# Altium integrated library Infineon_Power_MOSFET.IntLib: 1448 symbols (part 14 of 47)
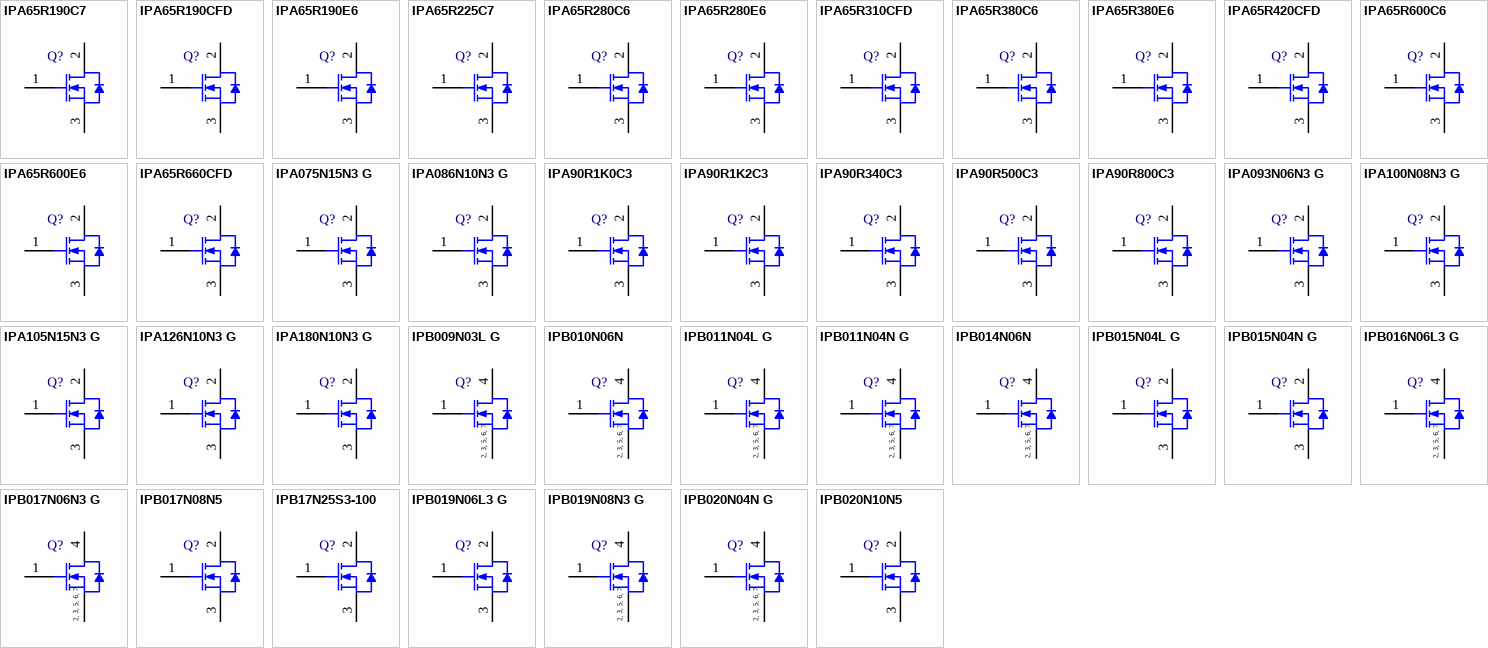
[diagram p50: symbols IPA65R190C7 to IPB020N10N5]

## IPA65R280C6
designator Q?
N-Channel CoolMOS C6 Power-Transistor, 650 V VDS, 13.8 A ID, -55 to 150 degC, PG-TO220-3-31, Tube, Green; Manufacturer: Infineon; PartNumber: IPA65R280C6; Green: TRUE; ID (max): 13.8 A; IDpuls (max): 39 A; Polarity: N; Ptot (max): 32 W; QG: 45 nC; RDS (on) (max): 280 mOhm; Rth: 3.9 K/W; RthJA (max): 80 K/W; VDS (max): 650 V; VGS(th) (max): 3.5 V; VGS(th) (min): 2.5 V; DatasheetVersion: Rev. 2.0; PackageVersion: Jan-07; PackageReference: PG-TO220-3-31; PackageDescription: 3-Pin Plastic (Green) Transistor Single Outline Package, 10.5 x 9.68 mm Body, 2.54 mm Pitch; Supplier 1: Mouser; Supplier Part Number 1: 726-IPA65R280C6; Supplier 2: Digi-Key; Supplier Part Number 2: IPA65R280C6-ND; Halogen-free: TRUE; Packing: Tube; RthJC (max): 3.9 K/W; Technology: CoolMOS C6; Mounting Technology: Through Hole; ComponentLink1Description: Manufacturer URL; ComponentLink1URL: http://www.infineon.com/; ComponentLink2Description: Datasheet; ComponentLink2URL: http://www.infineon.com/dgdl/IPA65R280C6_2_0.pdf?folderId=db3a3043156fd5730115c736bcc70ff2&fileId=db3a30432a7fedfc012a8a787d45589a; ComponentLink3Description: Package Specification; ComponentLink3URL: http://www.infineon.com/dgdl/IPA093N06N3_Rev2+0.pdf?folderId=db3a30431441fb5d01148ca9f1be0e77&fileId=db3a3043284aacd8012882bf84115438
footprint INF-PG-TO220-3-31 (FM, 3-Leads, Body 10.5x4.7mm, Pitch 2.54mm)
pins: 1 GATE, 2 DRAIN, 3 SOURCE

## IPA65R280E6
designator Q?
N-Channel CoolMOS E6 Power-Transistor, 650 V VDS, 13.8 A ID, -55 to 150 degC, PG-TO220-3-31, Tube, Green; Manufacturer: Infineon; PartNumber: IPA65R280E6; Green: TRUE; ID (max): 13.8 A; IDpuls (max): 39 A; Polarity: N; Ptot (max): 32 W; QG: 45 nC; RDS (on) (max): 280 mOhm; Rth: 3.9 K/W; RthJA (max): 80 K/W; VDS (max): 650 V; VGS(th) (max): 3.5 V; VGS(th) (min): 2.5 V; DatasheetVersion: Rev. 2.1; PackageVersion: Jan-07; PackageReference: PG-TO220-3-31; PackageDescription: 3-Pin Plastic (Green) Transistor Single Outline Package, 10.5 x 9.68 mm Body, 2.54 mm Pitch; Supplier 1: Mouser; Supplier Part Number 1: 726-IPA65R280E6; Supplier 2: Newark; Supplier Part Number 2: 47W3460; Supplier 3: Farnell; Supplier Part Number 3: 2212866; Supplier 4: Digi-Key; Supplier Part Number 4: IPA65R280E6-ND; Halogen-free: TRUE; Packing: Tube; RthJC (max): 3.9 K/W; Technology: CoolMOS E6; Mounting Technology: Through Hole; ComponentLink1Description: Manufacturer URL; ComponentLink1URL: http://www.infineon.com/; ComponentLink2Description: Datasheet; ComponentLink2URL: http://www.infineon.com/dgdl/IPA65R280E6_2_1.pdf?folderId=db3a3043163797a6011637d4e912003c&fileId=db3a304328c6bd5c0128d3bdf1ca009e; ComponentLink3Description: Package Specification; ComponentLink3URL: http://www.infineon.com/dgdl/IPA093N06N3_Rev2+0.pdf?folderId=db3a30431441fb5d01148ca9f1be0e77&fileId=db3a3043284aacd8012882bf84115438
footprint INF-PG-TO220-3-31 (FM, 3-Leads, Body 10.5x4.7mm, Pitch 2.54mm)
pins: 1 GATE, 2 DRAIN, 3 SOURCE

## IPA65R310CFD
designator Q?
N-Channel CoolMOS CFD2 Power-Transistor, 650 V VDS, 11.4 A ID, -55 to 150 degC, PG-TO220-3-31, Tube, Green; Manufacturer: Infineon; PartNumber: IPA65R310CFD; Green: TRUE; ID (max): 11.4 A; IDpuls (max): 34.4 A; Polarity: N; Ptot (max): 32 W; QG: 41 nC; RDS (on) (max): 310 mOhm; Rth: 3.9 K/W; RthJA (max): 80 K/W; VDS (max): 650 V; VGS(th) (max): 4.5 V; VGS(th) (min): 3.5 V; DatasheetVersion: Rev. 2.3; PackageVersion: Jan-07; PackageReference: PG-TO220-3-31; PackageDescription: 3-Pin Plastic (Green) Transistor Single Outline Package, 10.5 x 9.68 mm Body, 2.54 mm Pitch; Supplier 1: Mouser; Supplier Part Number 1: 726-IPA65R310CFD; Supplier 2: Digi-Key; Supplier Part Number 2: IPA65R310CFD-ND; Halogen-free: TRUE; Packing: Tube; RthJC (max): 3.9 K/W; Technology: CoolMOS CFD2; Mounting Technology: Through Hole; ComponentLink1Description: Manufacturer URL; ComponentLink1URL: http://www.infineon.com/; ComponentLink2Description: Datasheet; ComponentLink2URL: http://www.infineon.com/dgdl/DS_IPX65R310CFD__2_3.pdf?folderId=db3a3043163797a6011637d4bae7003b&fileId=db3a30432f91014f012f9caff105741c; ComponentLink3Description: Package Specification; ComponentLink3URL: http://www.infineon.com/dgdl/IPA093N06N3_Rev2+0.pdf?folderId=db3a30431441fb5d01148ca9f1be0e77&fileId=db3a3043284aacd8012882bf84115438
footprint INF-PG-TO220-3-31 (FM, 3-Leads, Body 10.5x4.7mm, Pitch 2.54mm)
pins: 1 GATE, 2 DRAIN, 3 SOURCE

## IPA65R380C6
designator Q?
N-Channel CoolMOS C6 Power-Transistor, 650 V VDS, 10.6 A ID, -55 to 150 degC, PG-TO220-3-31, Tube, Green; Manufacturer: Infineon; PartNumber: IPA65R380C6; Green: TRUE; ID (max): 10.6 A; IDpuls (max): 29 A; Polarity: N; Ptot (max): 31 W; QG: 39 nC; RDS (on) (max): 380 mOhm; Rth: 4 K/W; RthJA (max): 80 K/W; VDS (max): 650 V; VGS(th) (max): 3.5 V; VGS(th) (min): 2.5 V; DatasheetVersion: Rev. 2.0; PackageVersion: Jan-07; PackageReference: PG-TO220-3-31; PackageDescription: 3-Pin Plastic (Green) Transistor Single Outline Package, 10.5 x 9.68 mm Body, 2.54 mm Pitch; Supplier 1: Mouser; Supplier Part Number 1: 726-IPA65R380C6; Supplier 2: Digi-Key; Supplier Part Number 2: IPA65R380C6-ND; Halogen-free: TRUE; Packing: Tube; RthJC (max): 4 K/W; Technology: CoolMOS C6; Mounting Technology: Through Hole; ComponentLink1Description: Manufacturer URL; ComponentLink1URL: http://www.infineon.com/; ComponentLink2Description: Datasheet; ComponentLink2URL: http://www.infineon.com/dgdl/IPA65R380C6_2_0.pdf?folderId=db3a3043163797a6011637d4bae7003b&fileId=db3a30432ba3fa6f012bf2a58f67779f; ComponentLink3Description: Package Specification; ComponentLink3URL: http://www.infineon.com/dgdl/IPA093N06N3_Rev2+0.pdf?folderId=db3a30431441fb5d01148ca9f1be0e77&fileId=db3a3043284aacd8012882bf84115438
footprint INF-PG-TO220-3-31 (FM, 3-Leads, Body 10.5x4.7mm, Pitch 2.54mm)
pins: 1 GATE, 2 DRAIN, 3 SOURCE

## IPA65R380E6
designator Q?
N-Channel CoolMOS E6 Power-Transistor, 650 V VDS, 10.6 A ID, -55 to 150 degC, PG-TO220-3-31, Tube, Green; Manufacturer: Infineon; PartNumber: IPA65R380E6; Green: TRUE; ID (max): 10.6 A; IDpuls (max): 29 A; Polarity: N; Ptot (max): 31 W; QG: 39 nC; RDS (on) (max): 380 mOhm; Rth: 4 K/W; RthJA (max): 80 K/W; VDS (max): 650 V; VGS(th) (max): 3.5 V; VGS(th) (min): 2.5 V; DatasheetVersion: Rev. 2.0; PackageVersion: Jan-07; PackageReference: PG-TO220-3-31; PackageDescription: 3-Pin Plastic (Green) Transistor Single Outline Package, 10.5 x 9.68 mm Body, 2.54 mm Pitch; Supplier 1: Mouser; Supplier Part Number 1: 726-IPA65R380E6; Supplier 2: Newark; Supplier Part Number 2: 47W3461; Supplier 3: Farnell; Supplier Part Number 3: 2212878; Supplier 4: Digi-Key; Supplier Part Number 4: IPA65R380E6-ND; Halogen-free: TRUE; Packing: Tube; RthJC (max): 4 K/W; Technology: CoolMOS E6; Mounting Technology: Through Hole; ComponentLink1Description: Manufacturer URL; ComponentLink1URL: http://www.infineon.com/; ComponentLink2Description: Datasheet; ComponentLink2URL: http://www.infineon.com/dgdl/IPA65R380E6_2_0.pdf?folderId=db3a3043163797a6011637d4bae7003b&fileId=db3a304328c6bd5c012912f08f1c0a3f; ComponentLink3Description: Package Specification; ComponentLink3URL: http://www.infineon.com/dgdl/IPA093N06N3_Rev2+0.pdf?folderId=db3a30431441fb5d01148ca9f1be0e77&fileId=db3a3043284aacd8012882bf84115438
footprint INF-PG-TO220-3-31 (FM, 3-Leads, Body 10.5x4.7mm, Pitch 2.54mm)
pins: 1 GATE, 2 DRAIN, 3 SOURCE

## IPA65R420CFD
designator Q?
N-Channel CoolMOS Power-Transistor, 650 V VDS, 8.7 A ID, -55 to 150 degC, PG-TO220-3-31, Tube, Green; Manufacturer: Infineon; PartNumber: IPA65R420CFD; Green: TRUE; ID (max): 8.7 A; IDpuls (max): 27 A; Polarity: N; Ptot (max): 31.2 W; QG: 31.5 nC; RDS (on) (max): 420 mOhm; Rth: 4 K/W; RthJA (max): 80 K/W; VDS (max): 650 V; VGS(th) (max): 4.5 V; VGS(th) (min): 3.5 V; DatasheetVersion: Rev. 2.4; PackageVersion: Jan-07; PackageReference: PG-TO220-3-31; PackageDescription: 3-Pin Plastic (Green) Transistor Single Outline Package, 10.5 x 9.68 mm Body, 2.54 mm Pitch; Supplier 1: Mouser; Supplier Part Number 1: 726-IPA65R420CFD; Supplier 2: Digi-Key; Supplier Part Number 2: IPA65R420CFD-ND; Halogen-free: TRUE; Packing: Tube; RthJC (max): 4 K/W; Technology: CoolMOS CFD2; Mounting Technology: Through Hole; ComponentLink1Description: Manufacturer URL; ComponentLink1URL: http://www.infineon.com/; ComponentLink2Description: Datasheet; ComponentLink2URL: http://www.infineon.com/dgdl/DS_IPX65R420CFD_2_4.pdf?folderId=db3a3043156fd5730115c736bcc70ff2&fileId=db3a30432f91014f012f9c293f1a7399; ComponentLink3Description: Package Specification; ComponentLink3URL: http://www.infineon.com/dgdl/IPA093N06N3_Rev2+0.pdf?folderId=db3a30431441fb5d01148ca9f1be0e77&fileId=db3a3043284aacd8012882bf84115438
footprint INF-PG-TO220-3-31 (FM, 3-Leads, Body 10.5x4.7mm, Pitch 2.54mm)
pins: 1 GATE, 2 DRAIN, 3 SOURCE

## IPA65R600C6
designator Q?
N-Channel CoolMOS C6 Power-Transistor, 650 V VDS, 7.3 A ID, -55 to 150 degC, PG-TO220-3-31, Tube, Green; Manufacturer: Infineon; PartNumber: IPA65R600C6; Green: TRUE; ID (max): 7.3 A; IDpuls (max): 18 A; Polarity: N; Ptot (max): 28 W; QG: 23 nC; RDS (on) (max): 600 mOhm; Rth: 4.5 K/W; RthJA (max): 80 K/W; VDS (max): 650 V; VGS(th) (max): 3.5 V; VGS(th) (min): 2.5 V; DatasheetVersion: Rev. 2.0; PackageVersion: Jan-07; PackageReference: PG-TO220-3-31; PackageDescription: 3-Pin Plastic (Green) Transistor Single Outline Package, 10.5 x 9.68 mm Body, 2.54 mm Pitch; Supplier 1: Mouser; Supplier Part Number 1: 726-IPA65R600C6; Supplier 2: Digi-Key; Supplier Part Number 2: IPA65R600C6-ND; Halogen-free: TRUE; Packing: Tube; RthJC (max): 4.5 K/W; Technology: CoolMOS C6; Mounting Technology: Through Hole; ComponentLink1Description: Manufacturer URL; ComponentLink1URL: http://www.infineon.com/; ComponentLink2Description: Datasheet; ComponentLink2URL: http://www.infineon.com/dgdl/IPA65R600C6_2_0.pdf?folderId=db3a3043163797a6011637d4bae7003b&fileId=db3a30432ac1eb91012ac71e681d2c2e; ComponentLink3Description: Package Specification; ComponentLink3URL: http://www.infineon.com/dgdl/IPA093N06N3_Rev2+0.pdf?folderId=db3a30431441fb5d01148ca9f1be0e77&fileId=db3a3043284aacd8012882bf84115438
footprint INF-PG-TO220-3-31 (FM, 3-Leads, Body 10.5x4.7mm, Pitch 2.54mm)
pins: 1 GATE, 2 DRAIN, 3 SOURCE

## IPA65R600E6
designator Q?
N-Channel CoolMOS E6 Power-Transistor, 650 V VDS, 7.3 A ID, -55 to 150 degC, PG-TO220-3-31, Tube, Green; Manufacturer: Infineon; PartNumber: IPA65R600E6; Green: TRUE; ID (max): 7.3 A; IDpuls (max): 18 A; Polarity: N; Ptot (max): 28 W; QG: 23 nC; RDS (on) (max): 600 mOhm; Rth: 4.5 K/W; RthJA (max): 80 K/W; VDS (max): 650 V; VGS(th) (max): 3.5 V; VGS(th) (min): 2.5 V; DatasheetVersion: Rev. 2.0; PackageVersion: Jan-07; PackageReference: PG-TO220-3-31; PackageDescription: 3-Pin Plastic (Green) Transistor Single Outline Package, 10.5 x 9.68 mm Body, 2.54 mm Pitch; Supplier 1: Mouser; Supplier Part Number 1: 726-IPA65R600E6; Supplier 2: Digi-Key; Supplier Part Number 2: IPA65R600E6-ND; Halogen-free: TRUE; Packing: Tube; RthJC (max): 4.5 K/W; Technology: CoolMOS E6; Mounting Technology: Through Hole; ComponentLink1Description: Manufacturer URL; ComponentLink1URL: http://www.infineon.com/; ComponentLink2Description: Datasheet; ComponentLink2URL: http://www.infineon.com/dgdl/IPA65R600E6_2_0.pdf?folderId=db3a3043163797a6011637d4bae7003b&fileId=db3a304329a0f6ee0129d1468380061e; ComponentLink3Description: Package Specification; ComponentLink3URL: http://www.infineon.com/dgdl/IPA093N06N3_Rev2+0.pdf?folderId=db3a30431441fb5d01148ca9f1be0e77&fileId=db3a3043284aacd8012882bf84115438
footprint INF-PG-TO220-3-31 (FM, 3-Leads, Body 10.5x4.7mm, Pitch 2.54mm)
pins: 1 GATE, 2 DRAIN, 3 SOURCE

## IPA65R660CFD
designator Q?
N-Channel CoolMOS CFD2 Power-Transistor, 650 V VDS, 6 A ID, -55 to 150 degC, PG-TO220-3-31, Tube, Green; Manufacturer: Infineon; PartNumber: IPA65R660CFD; Green: TRUE; ID (max): 6 A; IDpuls (max): 17 A; Polarity: N; Ptot (max): 27.8 W; QG: 22 nC; RDS (on) (max): 660 mOhm; Rth: 4.5 K/W; RthJA (max): 80 K/W; VDS (max): 650 V; VGS(th) (max): 4.5 V; VGS(th) (min): 3.5 V; DatasheetVersion: Rev. 2.5; PackageVersion: Jan-07; PackageReference: PG-TO220-3-31; PackageDescription: 3-Pin Plastic (Green) Transistor Single Outline Package, 10.5 x 9.68 mm Body, 2.54 mm Pitch; Supplier 1: Mouser; Supplier Part Number 1: 726-IPA65R660CFD; Supplier 2: Digi-Key; Supplier Part Number 2: IPA65R660CFD-ND; Halogen-free: TRUE; Packing: Tube; RthJC (max): 4.5 K/W; Technology: CoolMOS CFD2; Mounting Technology: Through Hole; ComponentLink1Description: Manufacturer URL; ComponentLink1URL: http://www.infineon.com/; ComponentLink2Description: Datasheet; ComponentLink2URL: http://www.infineon.com/dgdl/DS_IPX65R660CFD_2_5.pdf?folderId=db3a3043163797a6011637d4e912003c&fileId=db3a30432e0bea21012e14dccc656df9; ComponentLink3Description: Package Specification; ComponentLink3URL: http://www.infineon.com/dgdl/IPA093N06N3_Rev2+0.pdf?folderId=db3a30431441fb5d01148ca9f1be0e77&fileId=db3a3043284aacd8012882bf84115438
footprint INF-PG-TO220-3-31 (FM, 3-Leads, Body 10.5x4.7mm, Pitch 2.54mm)
pins: 1 GATE, 2 DRAIN, 3 SOURCE

## IPA075N15N3 G
designator Q?
N-Channel OptiMOS 3 Power-Transistor, 150 V VDS, 43 A ID, -55 to 175 degC, PG-TO220-FP, Tube, Green; Manufacturer: Infineon; PartNumber: IPA075N15N3 G; Green: TRUE; ID (max): 43 A; IDpuls (max): 172 A; Polarity: N; Ptot (max): 39 W; QG: 70 nC; RDS (on) (max): 7.5 mOhm; Rth: 3.8 K/W; VDS (max): 150 V; VGS(th) (max): 4 V; VGS(th) (min): 2 V; DatasheetVersion: Rev. 2.02; PackageVersion: Jan-07; PackageReference: PG-TO220-FP; PackageDescription: 3-Pin Plastic (Green) Transistor Single Outline Package, 10.5 x 9.68 mm Body, 2.54 mm Pitch; Supplier 1: Mouser; Supplier Part Number 1: 726-IPA075N15N3G; Supplier 2: Digi-Key; Supplier Part Number 2: IPA075N15N3 G-ND; Halogen-free: TRUE; Packing: Tube; RthJC (max): 3.8 K/W; Mounting Technology: Through Hole; ComponentLink1Description: Manufacturer URL; ComponentLink1URL: http://www.infineon.com/; ComponentLink2Description: Datasheet; ComponentLink2URL: http://www.infineon.com/dgdl/IPA075N15N3+G_Rev2.2.pdf?folderId=db3a304313b8b5a60113cee8763b02d7&fileId=db3a304325afd6e0012627a00c6821de; ComponentLink3Description: Package Specification; ComponentLink3URL: http://www.infineon.com/dgdl/IPA100N08N3_Rev2.0.pdf?folderId=db3a304313b8b5a60113cee8763b02d7&fileId=db3a30431d8a6b3c011dce0add50352e
footprint INF-PG-TO220-FP (FM, 3-Leads, Body 10.5x4.7mm, Pitch 2.54mm)
pins: 1 GATE, 2 DRAIN, 3 SOURCE

## IPA086N10N3 G
designator Q?
N-Channel OptiMOS 3 Power-Transistor, 100 V VDS, 45 A ID, -55 to 175 degC, PG-TO220-FP, Tube, Green; Manufacturer: Infineon; PartNumber: IPA086N10N3 G; Green: TRUE; ID (max): 45 A; IDpuls (max): 180 A; Polarity: N; Ptot (max): 37.5 W; QG: 42 nC; RDS (on) (max): 8.6 mOhm; Rth: 4 K/W; VDS (max): 100 V; VGS(th) (max): 3.5 V; VGS(th) (min): 2 V; DatasheetVersion: Rev. 2.2; PackageVersion: Jan-07; PackageReference: PG-TO220-FP; PackageDescription: 3-Pin Plastic (Green) Transistor Single Outline Package, 10.5 x 9.68 mm Body, 2.54 mm Pitch; Supplier 1: Mouser; Supplier Part Number 1: 726-IPA086N10N3G; Supplier 2: Digi-Key; Supplier Part Number 2: IPA086N10N3 G-ND; Halogen-free: TRUE; Packing: Tube; RthJC (max): 4 K/W; Mounting Technology: Through Hole; ComponentLink1Description: Manufacturer URL; ComponentLink1URL: http://www.infineon.com/; ComponentLink2Description: Datasheet; ComponentLink2URL: http://www.infineon.com/dgdl/IPA086N10N3+G_Rev2.2.pdf?folderId=db3a304313b8b5a60113cee8763b02d7&fileId=db3a30432239cccd0122600a1e757edd; ComponentLink3Description: Package Specification; ComponentLink3URL: http://www.infineon.com/dgdl/IPA100N08N3_Rev2.0.pdf?folderId=db3a304313b8b5a60113cee8763b02d7&fileId=db3a30431d8a6b3c011dce0add50352e
footprint INF-PG-TO220-FP (FM, 3-Leads, Body 10.5x4.7mm, Pitch 2.54mm)
pins: 1 GATE, 2 DRAIN, 3 SOURCE

## IPA90R1K0C3
designator Q?
N-Channel CoolMOS Power-Transistor, 900 V VDS, 5.7 A ID, -55 to 150 degC, PG-TO220-3-31, Tube, Green; Manufacturer: Infineon; PartNumber: IPA90R1K0C3; Green: TRUE; ID (max): 5.7 A; IDpuls (max): 12 A; Polarity: N; Ptot (max): 32 W; QG: 34 nC; RDS (on) (max): 1,000 mOhm; Rth: 3.9 K/W; RthJA (max): 62 K/W; VDS (max): 900 V; VGS(th) (max): 3.5 V; VGS(th) (min): 2.5 V; DatasheetVersion: Rev. 1.0; PackageVersion: Jan-07; PackageReference: PG-TO220-3-31; PackageDescription: 3-Pin Plastic (Green) Transistor Single Outline Package, 10.5 x 9.68 mm Body, 2.54 mm Pitch; Supplier 1: Mouser; Supplier Part Number 1: 726-IPA90R1K0C3; Supplier 2: Digi-Key; Supplier Part Number 2: IPA90R1K0C3-ND; Halogen-free: TRUE; Packing: Tube; RthJC (max): 3.9 K/W; Technology: CoolMOS C3; Mounting Technology: Through Hole; ComponentLink1Description: Manufacturer URL; ComponentLink1URL: http://www.infineon.com/; ComponentLink2Description: Datasheet; ComponentLink2URL: http://www.infineon.com/dgdl/IPA90R1K0C3_1.0.pdf?folderId=db3a3043156fd5730115c736bcc70ff2&fileId=db3a30431b3e89eb011b8cbbbc490f94; ComponentLink3Description: Package Specification; ComponentLink3URL: http://www.infineon.com/dgdl/IPA093N06N3_Rev2+0.pdf?folderId=db3a30431441fb5d01148ca9f1be0e77&fileId=db3a3043284aacd8012882bf84115438
footprint INF-PG-TO220-3-31 (FM, 3-Leads, Body 10.5x4.7mm, Pitch 2.54mm)
pins: 1 GATE, 2 DRAIN, 3 SOURCE

## IPA90R1K2C3
designator Q?
N-Channel CoolMOS Power-Transistor, 900 V VDS, 5.1 A ID, -55 to 150 degC, PG-TO220-3-31, Tube, Green; Manufacturer: Infineon; PartNumber: IPA90R1K2C3; Green: TRUE; ID (max): 5.1 A; IDpuls (max): 10 A; Polarity: N; Ptot (max): 31 W; QG: 28 nC; RDS (on) (max): 1,200 mOhm; Rth: 4.1 K/W; RthJA (max): 62 K/W; VDS (max): 900 V; VGS(th) (max): 3.5 V; VGS(th) (min): 2.5 V; DatasheetVersion: Rev. 1.0; PackageVersion: Jan-07; PackageReference: PG-TO220-3-31; PackageDescription: 3-Pin Plastic (Green) Transistor Single Outline Package, 10.5 x 9.68 mm Body, 2.54 mm Pitch; Supplier 1: Mouser; Supplier Part Number 1: 726-IPA90R1K2C3; Supplier 2: Digi-Key; Supplier Part Number 2: IPA90R1K2C3-ND; Halogen-free: TRUE; Packing: Tube; RthJC (max): 4.1 K/W; Technology: CoolMOS C3; Mounting Technology: Through Hole; ComponentLink1Description: Manufacturer URL; ComponentLink1URL: http://www.infineon.com/; ComponentLink2Description: Datasheet; ComponentLink2URL: http://www.infineon.com/dgdl/IPA90R1K2C3_1.0.pdf?folderId=db3a3043163797a6011637d4bae7003b&fileId=db3a3043183a955501183c3c4d240098; ComponentLink3Description: Package Specification; ComponentLink3URL: http://www.infineon.com/dgdl/IPA093N06N3_Rev2+0.pdf?folderId=db3a30431441fb5d01148ca9f1be0e77&fileId=db3a3043284aacd8012882bf84115438
footprint INF-PG-TO220-3-31 (FM, 3-Leads, Body 10.5x4.7mm, Pitch 2.54mm)
pins: 1 GATE, 2 DRAIN, 3 SOURCE

## IPA90R340C3
designator Q?
N-Channel CoolMOS Power-Transistor, 900 V VDS, 15 A ID, -55 to 150 degC, PG-TO220-3-31, Tube, Green; Manufacturer: Infineon; PartNumber: IPA90R340C3; Green: TRUE; ID (max): 15 A; IDpuls (max): 34 A; Polarity: N; Ptot (max): 35 W; QG: 94 nC; RDS (on) (max): 340 mOhm; Rth: 3.6 K/W; RthJA (max): 62 K/W; VDS (max): 900 V; VGS(th) (max): 3.5 V; VGS(th) (min): 2.5 V; DatasheetVersion: Rev. 1.0; PackageVersion: Jan-07; PackageReference: PG-TO220-3-31; PackageDescription: 3-Pin Plastic (Green) Transistor Single Outline Package, 10.5 x 9.68 mm Body, 2.54 mm Pitch; Supplier 1: Mouser; Supplier Part Number 1: 726-IPA90R340C3; Supplier 2: Newark; Supplier Part Number 2: 33P7124; Supplier 3: Farnell; Supplier Part Number 3: 1664005; Supplier 4: Digi-Key; Supplier Part Number 4: IPA90R340C3-ND; Halogen-free: TRUE; Packing: Tube; RthJC (max): 3.6 K/W; Technology: CoolMOS C3; Mounting Technology: Through Hole; ComponentLink1Description: Manufacturer URL; ComponentLink1URL: http://www.infineon.com/; ComponentLink2Description: Datasheet; ComponentLink2URL: http://www.infineon.com/dgdl/IPA90R340C3_1.0.pdf?folderId=db3a3043156fd5730115c736bcc70ff2&fileId=db3a30431b3e89eb011b8cc90e320fa6; ComponentLink3Description: Package Specification; ComponentLink3URL: http://www.infineon.com/dgdl/IPA093N06N3_Rev2+0.pdf?folderId=db3a30431441fb5d01148ca9f1be0e77&fileId=db3a3043284aacd8012882bf84115438
footprint INF-PG-TO220-3-31 (FM, 3-Leads, Body 10.5x4.7mm, Pitch 2.54mm)
pins: 1 GATE, 2 DRAIN, 3 SOURCE

## IPA90R500C3
designator Q?
N-Channel CoolMOS Power-Transistor, 900 V VDS, 11 A ID, -55 to 150 degC, PG-TO220-3-31, Tube, Green; Manufacturer: Infineon; PartNumber: IPA90R500C3; Green: TRUE; ID (max): 11 A; IDpuls (max): 24 A; Polarity: N; Ptot (max): 34 W; QG: 68 nC; RDS (on) (max): 500 mOhm; Rth: 3.7 K/W; RthJA (max): 62 K/W; VDS (max): 900 V; VGS(th) (max): 3.5 V; VGS(th) (min): 2.5 V; DatasheetVersion: Rev. 1.0; PackageVersion: Jan-07; PackageReference: PG-TO220-3-31; PackageDescription: 3-Pin Plastic (Green) Transistor Single Outline Package, 10.5 x 9.68 mm Body, 2.54 mm Pitch; Supplier 1: Mouser; Supplier Part Number 1: 726-IPA90R500C3; Supplier 2: Digi-Key; Supplier Part Number 2: IPA90R500C3-ND; Halogen-free: TRUE; Packing: Tube; RthJC (max): 3.7 K/W; Technology: CoolMOS C3; Mounting Technology: Through Hole; ComponentLink1Description: Manufacturer URL; ComponentLink1URL: http://www.infineon.com/; ComponentLink2Description: Datasheet; ComponentLink2URL: http://www.infineon.com/dgdl/IPA90R500C3_1.0.pdf?folderId=db3a3043156fd5730115c736bcc70ff2&fileId=db3a30431b3e89eb011b8cd1d1b10fb6; ComponentLink3Description: Package Specification; ComponentLink3URL: http://www.infineon.com/dgdl/IPA093N06N3_Rev2+0.pdf?folderId=db3a30431441fb5d01148ca9f1be0e77&fileId=db3a3043284aacd8012882bf84115438
footprint INF-PG-TO220-3-31 (FM, 3-Leads, Body 10.5x4.7mm, Pitch 2.54mm)
pins: 1 GATE, 2 DRAIN, 3 SOURCE

## IPA90R800C3
designator Q?
N-Channel CoolMOS Power-Transistor, 900 V VDS, 6.9 A ID, -55 to 150 degC, PG-TO220-3-31, Tube, Green; Manufacturer: Infineon; PartNumber: IPA90R800C3; Green: TRUE; ID (max): 6.9 A; IDpuls (max): 15 A; Polarity: N; Ptot (max): 33 W; QG: 42 nC; RDS (on) (max): 800 mOhm; Rth: 3.8 K/W; RthJA (max): 62 K/W; VDS (max): 900 V; VGS(th) (max): 3.5 V; VGS(th) (min): 2.5 V; DatasheetVersion: Rev. 1.0; PackageVersion: Jan-07; PackageReference: PG-TO220-3-31; PackageDescription: 3-Pin Plastic (Green) Transistor Single Outline Package, 10.5 x 9.68 mm Body, 2.54 mm Pitch; Supplier 1: Mouser; Supplier Part Number 1: 726-IPA90R800C3; Supplier 2: Newark; Supplier Part Number 2: 33P7126; Supplier 3: Farnell; Supplier Part Number 3: 1664007; Supplier 4: Digi-Key; Supplier Part Number 4: IPA90R800C3-ND; Halogen-free: TRUE; Packing: Tube; RthJC (max): 3.8 K/W; Technology: CoolMOS C3; Mounting Technology: Through Hole; ComponentLink1Description: Manufacturer URL; ComponentLink1URL: http://www.infineon.com/; ComponentLink2Description: Datasheet; ComponentLink2URL: http://www.infineon.com/dgdl/IPA90R800C3_1.0.pdf?folderId=db3a3043156fd5730115c736bcc70ff2&fileId=db3a30431b3e89eb011b8cd8a0b90fc6; ComponentLink3Description: Package Specification; ComponentLink3URL: http://www.infineon.com/dgdl/IPA093N06N3_Rev2+0.pdf?folderId=db3a30431441fb5d01148ca9f1be0e77&fileId=db3a3043284aacd8012882bf84115438
footprint INF-PG-TO220-3-31 (FM, 3-Leads, Body 10.5x4.7mm, Pitch 2.54mm)
pins: 1 GATE, 2 DRAIN, 3 SOURCE

## IPA093N06N3 G
designator Q?
N-Channel OptiMOS 3 Power-Transistor, 60 V VDS, 43 A ID, -55 to 175 degC, PG-TO220-3-31, Tube, Green; Manufacturer: Infineon; PartNumber: IPA093N06N3 G; Green: TRUE; ID (max): 43 A; IDpuls (max): 172 A; Polarity: N; Ptot (max): 33 W; QG: 36 nC; RDS (on) (max): 9.3 mOhm; Rth: 4.6 K/W; RthJC (max): 4.6 K/W; VDS (max): 60 V; VGS(th) (max): 4 V; VGS(th) (min): 2 V; DatasheetVersion: Rev. 2.0; PackageVersion: Jan-07; PackageReference: PG-TO220-3-31; PackageDescription: 3-Pin Plastic (Green) Transistor Single Outline Package, 10.5 x 9.68 mm Body, 2.54 mm Pitch; Supplier 1: Mouser; Supplier Part Number 1: 726-IPA093N06N3G; Supplier 2: Digi-Key; Supplier Part Number 2: IPA093N06N3 G-ND; Halogen-free: TRUE; Packing: Tube; Mounting Technology: Through Hole; ComponentLink1Description: Manufacturer URL; ComponentLink1URL: http://www.infineon.com/; ComponentLink2Description: Datasheet; ComponentLink2URL: http://www.infineon.com/dgdl/IPA093N06N3_Rev2+0.pdf?folderId=db3a30431441fb5d01148ca9f1be0e77&fileId=db3a3043284aacd8012882bf84115438; ComponentLink3Description: Package Specification; ComponentLink3URL: http://www.infineon.com/dgdl/IPA093N06N3_Rev2+0.pdf?folderId=db3a30431441fb5d01148ca9f1be0e77&fileId=db3a3043284aacd8012882bf84115438
footprint INF-PG-TO220-3-31 (FM, 3-Leads, Body 10.5x4.7mm, Pitch 2.54mm)
pins: 1 GATE, 2 DRAIN, 3 SOURCE

## IPA100N08N3 G
designator Q?
N-Channel OptiMOS 3 Power-Transistor, 80 V VDS, 40 A ID, -55 to 175 degC, PG-TO220-FP, Tube, Green; Manufacturer: Infineon; PartNumber: IPA100N08N3 G; Green: TRUE; ID (max): 40 A; IDpuls (max): 160 A; Polarity: N; Ptot (max): 35 W; QG: 26 nC; RDS (on) (max): 10 mOhm; Rth: 4.3 K/W; RthJA (max): 62 K/W; VDS (max): 80 V; VGS(th) (max): 3.5 V; VGS(th) (min): 2 V; DatasheetVersion: Rev. 2.0; PackageVersion: Jan-07; PackageReference: PG-TO220-FP; PackageDescription: 3-Pin Plastic (Green) Transistor Single Outline Package, 10.5 x 9.68 mm Body, 2.54 mm Pitch; Supplier 1: Mouser; Supplier Part Number 1: 726-IPA100N08N3G; Supplier 2: Digi-Key; Supplier Part Number 2: IPA100N08N3 G-ND; Halogen-free: TRUE; Packing: Tube; RthJC (max): 4.3 K/W; Mounting Technology: Through Hole; ComponentLink1Description: Manufacturer URL; ComponentLink1URL: http://www.infineon.com/; ComponentLink2Description: Datasheet; ComponentLink2URL: http://www.infineon.com/dgdl/IPA100N08N3_Rev2.pdf?folderId=db3a304313b8b5a60113cee8763b02d7&fileId=db3a30431d8a6b3c011dce0add50352e; ComponentLink3Description: Package Specification; ComponentLink3URL: http://www.infineon.com/dgdl/IPA100N08N3_Rev2.0.pdf?folderId=db3a304313b8b5a60113cee8763b02d7&fileId=db3a30431d8a6b3c011dce0add50352e
footprint INF-PG-TO220-FP (FM, 3-Leads, Body 10.5x4.7mm, Pitch 2.54mm)
pins: 1 GATE, 2 DRAIN, 3 SOURCE

## IPA105N15N3 G
designator Q?
N-Channel OptiMOS 3 Power-Transistor, 150 V VDS, 37 A ID, -55 to 175 degC, PG-TO220-FP, Tube, Green; Manufacturer: Infineon; PartNumber: IPA105N15N3 G; Green: TRUE; ID (max): 37 A; IDpuls (max): 148 A; Polarity: N; Ptot (max): 40.5 W; QG: 41 nC; RDS (on) (max): 10.5 mOhm; Rth: 3.7 K/W; VDS (max): 150 V; VGS(th) (max): 4 V; VGS(th) (min): 2 V; DatasheetVersion: Rev. 2.1; PackageVersion: Jan-07; PackageReference: PG-TO220-FP; PackageDescription: 3-Pin Plastic (Green) Transistor Single Outline Package, 10.5 x 9.68 mm Body, 2.54 mm Pitch; Supplier 1: Mouser; Supplier Part Number 1: 726-IPA105N15N3G; Supplier 2: Digi-Key; Supplier Part Number 2: IPA105N15N3 G-ND; Halogen-free: TRUE; Packing: Tube; RthJC (max): 3.7 K/W; Mounting Technology: Through Hole; ComponentLink1Description: Manufacturer URL; ComponentLink1URL: http://www.infineon.com/; ComponentLink2Description: Datasheet; ComponentLink2URL: http://www.infineon.com/dgdl/IPA105N15N3+G_Rev2.1.pdf?folderId=db3a304313b8b5a60113cee8763b02d7&fileId=db3a304325afd6e0012627af255d21ed; ComponentLink3Description: Package Specification; ComponentLink3URL: http://www.infineon.com/dgdl/IPA100N08N3_Rev2.0.pdf?folderId=db3a304313b8b5a60113cee8763b02d7&fileId=db3a30431d8a6b3c011dce0add50352e
footprint INF-PG-TO220-FP (FM, 3-Leads, Body 10.5x4.7mm, Pitch 2.54mm)
pins: 1 GATE, 2 DRAIN, 3 SOURCE

## IPA126N10N3 G
designator Q?
N-Channel OptiMOS 3 Power-Transistor, 100 V VDS, 35 A ID, -55 to 175 degC, PG-TO220-FP, Tube, Green; Manufacturer: Infineon; PartNumber: IPA126N10N3 G; Green: TRUE; ID (max): 35 A; IDpuls (max): 140 A; Polarity: N; Ptot (max): 33 W; QG: 26 nC; RDS (on) (max): 12.6 mOhm; Rth: 4.5 K/W; VDS (max): 100 V; VGS(th) (max): 3.5 V; VGS(th) (min): 2 V; DatasheetVersion: Rev. 2.2; PackageVersion: Jan-07; PackageReference: PG-TO220-FP; PackageDescription: 3-Pin Plastic (Green) Transistor Single Outline Package, 10.5 x 9.68 mm Body, 2.54 mm Pitch; Supplier 1: Mouser; Supplier Part Number 1: 726-IPA126N10N3G; Supplier 2: Digi-Key; Supplier Part Number 2: IPA126N10N3 G-ND; Halogen-free: TRUE; Packing: Tube; RthJC (max): 4.5 K/W; Mounting Technology: Through Hole; ComponentLink1Description: Manufacturer URL; ComponentLink1URL: http://www.infineon.com/; ComponentLink2Description: Datasheet; ComponentLink2URL: http://www.infineon.com/dgdl/IPA126N10N3+G_Rev2.2.pdf?folderId=db3a304313b8b5a60113cee8763b02d7&fileId=db3a30432239cccd0122601c46c77f03; ComponentLink3Description: Package Specification; ComponentLink3URL: http://www.infineon.com/dgdl/IPA100N08N3_Rev2.0.pdf?folderId=db3a304313b8b5a60113cee8763b02d7&fileId=db3a30431d8a6b3c011dce0add50352e
footprint INF-PG-TO220-FP (FM, 3-Leads, Body 10.5x4.7mm, Pitch 2.54mm)
pins: 1 GATE, 2 DRAIN, 3 SOURCE

## IPA180N10N3 G
designator Q?
N-Channel OptiMOS 3 Power-Transistor, 100 V VDS, 28 A ID, -55 to 175 degC, PG-TO220-FP, Tube, Green; Manufacturer: Infineon; PartNumber: IPA180N10N3 G; Green: TRUE; ID (max): 28 A; IDpuls (max): 112 A; Polarity: N; Ptot (max): 30 W; QG: 19 nC; RDS (on) (max): 18 mOhm; Rth: 5 K/W; VDS (max): 100 V; VGS(th) (max): 3.5 V; VGS(th) (min): 2 V; DatasheetVersion: Rev. 2.2; PackageVersion: Jan-07; PackageReference: PG-TO220-FP; PackageDescription: 3-Pin Plastic (Green) Transistor Single Outline Package, 10.5 x 9.68 mm Body, 2.54 mm Pitch; Supplier 1: Mouser; Supplier Part Number 1: 726-IPA180N10N3G; Supplier 2: Digi-Key; Supplier Part Number 2: IPA180N10N3 G-ND; Halogen-free: TRUE; Packing: Tube; RthJC (max): 5 K/W; Mounting Technology: Through Hole; ComponentLink1Description: Manufacturer URL; ComponentLink1URL: http://www.infineon.com/; ComponentLink2Description: Datasheet; ComponentLink2URL: http://www.infineon.com/dgdl/IPA180N10N3+G_Rev2.2.pdf?folderId=db3a304313b8b5a60113cee8763b02d7&fileId=db3a30432239cccd0122602bfa617f29; ComponentLink3Description: Package Specification; ComponentLink3URL: http://www.infineon.com/dgdl/IPA100N08N3_Rev2.0.pdf?folderId=db3a304313b8b5a60113cee8763b02d7&fileId=db3a30431d8a6b3c011dce0add50352e
footprint INF-PG-TO220-FP (FM, 3-Leads, Body 10.5x4.7mm, Pitch 2.54mm)
pins: 1 GATE, 2 DRAIN, 3 SOURCE

## IPB009N03L G
designator Q?
N-Channel OptiMOS 3 Power-Transistor, 30 V VDS, 180 A ID, -55 to 175 degC, PG-TO-263-7-2, Reel, Green; Manufacturer: Infineon; PartNumber: IPB009N03L G; Green: TRUE; ID (max): 180 A; IDpuls (max): 1,260 A; Polarity: N; Ptot (max): 250 W; QG: 110 nC; RDS (on) (max): 0.95 mOhm; RDS (on) (max) (@4.5V): 1.3 mOhm; Rth: 0.6 K/W; RthJA (max): 62 K/W; VDS (max): 30 V; VGS(th) (max): 2.2 V; VGS(th) (min): 1 V; DatasheetVersion: Rev. 1.3; PackageVersion: Rev. 01, 11/2007; PackageReference: PG-TO-263-7-2; PackageDescription: 7-Pin Plastic (Green) Transistor Single Outline Package, 10.1 x 8.98 mm Body, 1.27 mm Pitch; Supplier 1: Mouser; Supplier Part Number 1: 726-IPB009N03LG; Supplier 2: Farnell; Supplier Part Number 2: 1775514; Supplier 3: Digi-Key; Supplier Part Number 3: IPB009N03L GTR-ND; Supplier 4: Digi-Key; Supplier Part Number 4: IPB009N03L GCT-ND; Supplier 5: Digi-Key; Supplier Part Number 5: IPB009N03L GDKR-ND; Halogen-free: TRUE; Packing: Reel; RthJC (max): 0.6 K/W; Mounting Technology: Surface Mount; ComponentLink1Description: Manufacturer URL; ComponentLink1URL: http://www.infineon.com/; ComponentLink2Description: Datasheet; ComponentLink2URL: http://www.infineon.com/dgdl/IPB009N03L_rev1.3.pdf?folderId=db3a3043156fd5730115c7d50620107c&fileId=db3a30431689f4420116d426b6770ca3; ComponentLink3Description: Package Specification; ComponentLink3URL: http://www.infineon.com/dgdl/BTS621L1_20030922.pdf?folderId=db3a30431400ef68011421b54e2e0564&fileId=db3a304333227b5e0133258247c72ecc&sId=db3a30433d68e984013d8539603e0d72
footprint INF-PG-TO-263-7-2_N (DPAK, 7-Leads, Body 10.1x8.98mm, Pitch 1.27mm, IPC Medium Density)
footprint INF-PG-TO-263-7-2_L (DPAK, 7-Leads, Body 10.1x8.98mm, Pitch 1.27mm, IPC High Density)
footprint INF-PG-TO-263-7-2_M (DPAK, 7-Leads, Body 10.1x8.98mm, Pitch 1.27mm, IPC Low Density)
pins: 1 GATE, 2 SOURCE, 3 SOURCE, 4 DRAIN, 5 SOURCE, 6 SOURCE, 7 SOURCE
text: 2, 3, 5, 6, 7

## IPB010N06N
designator Q?
N-Channel OptiMOS Power-Transistor, 60 V VDS, 180 A ID, -55 to 175 degC, PG-TO263-7-1, Reel, Green; Manufacturer: Infineon; PartNumber: IPB010N06N; Green: TRUE; ID (max): 180 A; IDpuls (max): 720 A; Polarity: N; Ptot (max): 300 W; QG: 208 nC; RDS (on) (max): 1 mOhm; Rth: 0.5 K/W; RthJA (max): 62 K/W; VDS (max): 60 V; VGS(th) (max): 4 V; VGS(th) (min): 2.1 V; DatasheetVersion: Rev. 2.1; PackageVersion: May-07; PackageReference: PG-TO263-7-1; PackageDescription: 7-Pin Plastic (Green) Transistor Single Outline Package, 9.25 x 10 mm Body, 1.27 mm Pitch; Supplier 1: Newark; Supplier Part Number 1: 79X1431; Supplier 2: Farnell; Supplier Part Number 2: 2432724; Supplier 3: Digi-Key; Supplier Part Number 3: IPB010N06NTR-ND; Supplier 4: Digi-Key; Supplier Part Number 4: IPB010N06NCT-ND; Supplier 5: Digi-Key; Supplier Part Number 5: IPB010N06NDKR-ND; Halogen-free: TRUE; Packing: Reel; RthJC (max): 0.5 K/W; Mounting Technology: Surface Mount; ComponentLink1Description: Manufacturer URL; ComponentLink1URL: http://www.infineon.com/; ComponentLink2Description: Datasheet; ComponentLink2URL: http://www.infineon.com/dgdl/IPB010N06N_Rev2.1.pdf?folderId=db3a304313b8b5a60113cee8763b02d7&fileId=db3a3043353fdc1601355341f17a485f; ComponentLink3Description: Package Specification; ComponentLink3URL: http://www.infineon.com/dgdl/TLE5205-2_DS_11%5B1%5D.pdf?folderId=db3a30431b3e89eb011bb632994f065b&fileId=db3a30431f848401011fc747c7a0797f&sId=db3a30433d68e984013d7d43135b5b6a
footprint INF-PG-TO263-7-1_N (DPAK, 8-Leads, Body 10x9.25mm, Pitch 1.27mm, IPC Medium Density)
footprint INF-PG-TO263-7-1_L (DPAK, 8-Leads, Body 10x9.25mm, Pitch 1.27mm, IPC High Density)
footprint INF-PG-TO263-7-1_M (DPAK, 8-Leads, Body 10x9.25mm, Pitch 1.27mm, IPC Low Density)
pins: 1 GATE, 2 SOURCE, 3 SOURCE, 4 DRAIN, 5 SOURCE, 6 SOURCE, 7 SOURCE
text: 2, 3, 5, 6, 7

## IPB011N04L G
designator Q?
N-Channel OptiMOS 3 Power-Transistor, 40 V VDS, 180 A ID, -55 to 175 degC, PG-TO-263-7-2, Reel, Green; Manufacturer: Infineon; PartNumber: IPB011N04L G; Green: TRUE; ID (max): 180 A; IDpuls (max): 1260 A; Polarity: N; Ptot (max): 250 W; QG: 260 nC; RDS (on) (max): 1.1 mOhm; RDS (on) (max) (@4.5V): 1.4 mOhm; Rth: 0.6 K/W; RthJA (max): 62 K/W; VDS (max): 40 V; VGS(th) (max): 2 V; VGS(th) (min): 1.2 V; DatasheetVersion: Rev. 1.3; PackageVersion: Rev. 01, 11/2007; PackageReference: PG-TO-263-7-2; PackageDescription: 7-Pin Plastic (Green) Transistor Single Outline Package, 10.1 x 8.98 mm Body, 1.27 mm Pitch; Supplier 1: Mouser; Supplier Part Number 1: 726-IPB011N04LG; Supplier 2: Digi-Key; Supplier Part Number 2: IPB011N04L GTR-ND; Supplier 3: Digi-Key; Supplier Part Number 3: IPB011N04L GCT-ND; Supplier 4: Digi-Key; Supplier Part Number 4: IPB011N04L GDKR-ND; Halogen-free: TRUE; Packing: Reel; RthJC (max): 0.6 K/W; Mounting Technology: Surface Mount; ComponentLink1Description: Manufacturer URL; ComponentLink1URL: http://www.infineon.com/; ComponentLink2Description: Datasheet; ComponentLink2URL: http://www.infineon.com/dgdl/IPB011N04L_rev1.3.pdf?folderId=db3a3043156fd5730115c7d50620107c&fileId=db3a30431689f4420116c451f4e20825; ComponentLink3Description: Package Specification; ComponentLink3URL: http://www.infineon.com/dgdl/BTS621L1_20030922.pdf?folderId=db3a30431400ef68011421b54e2e0564&fileId=db3a304333227b5e0133258247c72ecc&sId=db3a30433d68e984013d8539603e0d72
footprint INF-PG-TO-263-7-2_N (DPAK, 7-Leads, Body 10.1x8.98mm, Pitch 1.27mm, IPC Medium Density)
footprint INF-PG-TO-263-7-2_L (DPAK, 7-Leads, Body 10.1x8.98mm, Pitch 1.27mm, IPC High Density)
footprint INF-PG-TO-263-7-2_M (DPAK, 7-Leads, Body 10.1x8.98mm, Pitch 1.27mm, IPC Low Density)
pins: 1 GATE, 2 SOURCE, 3 SOURCE, 4 DRAIN, 5 SOURCE, 6 SOURCE, 7 SOURCE
text: 2, 3, 5, 6, 7

## IPB011N04N G
designator Q?
N-Channel OptiMOS 3 Power-Transistor, 40 V VDS, 180 A ID, -55 to 175 degC, PG-TO-263-7-2, Reel, Green; Manufacturer: Infineon; PartNumber: IPB011N04N G; Green: TRUE; ID (max): 180 A; IDpuls (max): 1260 A; Polarity: N; Ptot (max): 250 W; QG: 188 nC; RDS (on) (max): 1.1 mOhm; Rth: 0.6 K/W; RthJA (max): 62 K/W; VDS (max): 40 V; VGS(th) (max): 4 V; VGS(th) (min): 2 V; DatasheetVersion: Rev. 1.4; PackageVersion: Rev. 01, 11/2007; PackageReference: PG-TO-263-7-2; PackageDescription: 7-Pin Plastic (Green) Transistor Single Outline Package, 10.1 x 8.98 mm Body, 1.27 mm Pitch; Supplier 1: Mouser; Supplier Part Number 1: 726-IPB011N04NG; Supplier 2: Newark; Supplier Part Number 2: 60R2640; Supplier 3: Farnell; Supplier Part Number 3: 1775516; Supplier 4: Digi-Key; Supplier Part Number 4: IPB011N04N G-ND; Halogen-free: TRUE; Packing: Reel; RthJC (max): 0.6 K/W; Mounting Technology: Surface Mount; ComponentLink1Description: Manufacturer URL; ComponentLink1URL: http://www.infineon.com/; ComponentLink2Description: Datasheet; ComponentLink2URL: http://www.infineon.com/dgdl/IPB011N04N_rev1+4.pdf?folderId=db3a3043163797a6011643468e7505a4&fileId=db3a3043163797a601164373e07005f8; ComponentLink3Description: Package Specification; ComponentLink3URL: http://www.infineon.com/dgdl/BTS621L1_20030922.pdf?folderId=db3a30431400ef68011421b54e2e0564&fileId=db3a304333227b5e0133258247c72ecc&sId=db3a30433d68e984013d8539603e0d72
footprint INF-PG-TO-263-7-2_N (DPAK, 7-Leads, Body 10.1x8.98mm, Pitch 1.27mm, IPC Medium Density)
footprint INF-PG-TO-263-7-2_L (DPAK, 7-Leads, Body 10.1x8.98mm, Pitch 1.27mm, IPC High Density)
footprint INF-PG-TO-263-7-2_M (DPAK, 7-Leads, Body 10.1x8.98mm, Pitch 1.27mm, IPC Low Density)
pins: 1 GATE, 2 SOURCE, 3 SOURCE, 4 DRAIN, 5 SOURCE, 6 SOURCE, 7 SOURCE
text: 2, 3, 5, 6, 7

## IPB014N06N
designator Q?
N-Channel OptiMOS Power-Transistor, 60 V VDS, 180 A ID, -55 to 175 degC, PG-TO263-7-1, Reel, Green; Manufacturer: Infineon; PartNumber: IPB014N06N; Green: TRUE; ID (max): 180 A; IDpuls (max): 720 A; Polarity: N; Ptot (max): 214 W; QG: 106 nC; RDS (on) (max): 1.4 mOhm; Rth: 0.7 K/W; RthJA (max): 62 K/W; VDS (max): 60 V; VGS(th) (max): 3.3 V; VGS(th) (min): 2.1 V; DatasheetVersion: Rev. 2.2; PackageVersion: May-07; PackageReference: PG-TO263-7-1; PackageDescription: 7-Pin Plastic (Green) Transistor Single Outline Package, 9.25 x 10 mm Body, 1.27 mm Pitch; Supplier 1: Digi-Key; Supplier Part Number 1: IPB014N06NTR-ND; Supplier 2: Digi-Key; Supplier Part Number 2: IPB014N06NCT-ND; Supplier 3: Digi-Key; Supplier Part Number 3: IPB014N06NDKR-ND; Halogen-free: TRUE; Packing: Reel; RthJC (max): 0.7 K/W; Mounting Technology: Surface Mount; ComponentLink1Description: Manufacturer URL; ComponentLink1URL: http://www.infineon.com/; ComponentLink2Description: Datasheet; ComponentLink2URL: http://www.infineon.com/dgdl/IPB014N06N_Rev2.2.pdf?folderId=db3a304313b8b5a60113cee8763b02d7&fileId=db3a3043353fdc160135534e951e4873; ComponentLink3Description: Package Specification; ComponentLink3URL: http://www.infineon.com/dgdl/TLE5205-2_DS_11%5B1%5D.pdf?folderId=db3a30431b3e89eb011bb632994f065b&fileId=db3a30431f848401011fc747c7a0797f&sId=db3a30433d68e984013d7d43135b5b6a
footprint INF-PG-TO263-7-1_N (DPAK, 8-Leads, Body 10x9.25mm, Pitch 1.27mm, IPC Medium Density)
footprint INF-PG-TO263-7-1_L (DPAK, 8-Leads, Body 10x9.25mm, Pitch 1.27mm, IPC High Density)
footprint INF-PG-TO263-7-1_M (DPAK, 8-Leads, Body 10x9.25mm, Pitch 1.27mm, IPC Low Density)
pins: 1 GATE, 2 SOURCE, 3 SOURCE, 4 DRAIN, 5 SOURCE, 6 SOURCE, 7 SOURCE
text: 2, 3, 5, 6, 7

## IPB015N04L G
designator Q?
N-Channel OptiMOS 3 Power-Transistor, 40 V VDS, 120 A ID, -55 to 175 degC, PG-TO-263-3-2, Reel, Green; Manufacturer: Infineon; PartNumber: IPB015N04L G; Green: TRUE; ID (max): 120 A; IDpuls (max): 400 A; Polarity: N; Ptot (max): 250 W; QG: 260 nC; RDS (on) (max): 1.5 mOhm; RDS (on) (max) (@4.5V): 1.8 mOhm; Rth: 0.6 K/W; RthJA (max): 62 K/W; VDS (max): 40 V; VGS(th) (max): 2 V; VGS(th) (min): 1.2 V; DatasheetVersion: Rev. 1.2; PackageVersion: Rev. 01, 08/2007; PackageReference: PG-TO-263-3-2; PackageDescription: 3-Pin Plastic (Green) Transistor Single Outline Package, 10.06 x 8.98 mm Body, 2.54 mm Pitch; Supplier 1: Mouser; Supplier Part Number 1: 726-IPB015N04LG; Supplier 2: Farnell; Supplier Part Number 2: 1775517; Supplier 3: Digi-Key; Supplier Part Number 3: IPB015N04L GTR-ND; Supplier 4: Digi-Key; Supplier Part Number 4: IPB015N04L GCT-ND; Supplier 5: Digi-Key; Supplier Part Number 5: IPB015N04L GDKR-ND; Halogen-free: TRUE; Packing: Reel; RthJC (max): 0.6 K/W; Mounting Technology: Surface Mount; ComponentLink1Description: Manufacturer URL; ComponentLink1URL: http://www.infineon.com/; ComponentLink2Description: Datasheet; ComponentLink2URL: http://www.infineon.com/dgdl/IPB015N04L_rev1.2.pdf?folderId=db3a304313b8b5a60113cee8763b02d7&fileId=db3a30431936bc4b0119382488c359d3; ComponentLink3Description: Package Specification; ComponentLink3URL: http://www.infineon.com/dgdl/IPB026N06N_Rev2.2.pdf?folderId=db3a304313b8b5a60113cee8763b02d7&fileId=db3a3043372d5cc8013754c7b2a74f7c
footprint INF-PG-TO-263-3-2_A_N (DPAK, 3-Leads, Body 10.06x8.98mm, Pitch 2.54mm, IPC Medium Density)
footprint INF-PG-TO-263-3-2_A_L (DPAK, 3-Leads, Body 10.06x8.98mm, Pitch 2.54mm, IPC High Density)
footprint INF-PG-TO-263-3-2_A_M (DPAK, 3-Leads, Body 10.06x8.98mm, Pitch 2.54mm, IPC Low Density)
pins: 1 GATE, 2 DRAIN, 3 SOURCE

## IPB015N04N G
designator Q?
N-Channel OptiMOS 3 Power-Transistor, 40 V VDS, 120 A ID, -55 to 175 degC, PG-TO-263-3-2, Reel, Green; Manufacturer: Infineon; PartNumber: IPB015N04N G; Green: TRUE; ID (max): 120 A; IDpuls (max): 400 A; Polarity: N; Ptot (max): 250 W; QG: 188 nC; RDS (on) (max): 1.5 mOhm; Rth: 0.6 K/W; RthJA (max): 62 K/W; VDS (max): 40 V; VGS(th) (max): 4 V; VGS(th) (min): 2 V; DatasheetVersion: Rev. 2.2; PackageVersion: Rev. 01, 08/2007; PackageReference: PG-TO-263-3-2; PackageDescription: 3-Pin Plastic (Green) Transistor Single Outline Package, 10.06 x 8.98 mm Body, 2.54 mm Pitch; Supplier 1: Mouser; Supplier Part Number 1: 726-IPB015N04NG; Supplier 2: Digi-Key; Supplier Part Number 2: IPB015N04N GTR-ND; Supplier 3: Digi-Key; Supplier Part Number 3: IPB015N04N GCT-ND; Supplier 4: Digi-Key; Supplier Part Number 4: IPB015N04N GDKR-ND; Halogen-free: TRUE; Packing: Reel; RthJC (max): 0.6 K/W; Mounting Technology: Surface Mount; ComponentLink1Description: Manufacturer URL; ComponentLink1URL: http://www.infineon.com/; ComponentLink2Description: Datasheet; ComponentLink2URL: http://www.infineon.com/dgdl/IPB015N04N_rev2.2.pdf?folderId=db3a3043156fd5730115c7d50620107c&fileId=db3a30431689f4420116c474de8f0845; ComponentLink3Description: Package Specification; ComponentLink3URL: http://www.infineon.com/dgdl/IPB026N06N_Rev2.2.pdf?folderId=db3a304313b8b5a60113cee8763b02d7&fileId=db3a3043372d5cc8013754c7b2a74f7c
footprint INF-PG-TO-263-3-2_A_N (DPAK, 3-Leads, Body 10.06x8.98mm, Pitch 2.54mm, IPC Medium Density)
footprint INF-PG-TO-263-3-2_A_L (DPAK, 3-Leads, Body 10.06x8.98mm, Pitch 2.54mm, IPC High Density)
footprint INF-PG-TO-263-3-2_A_M (DPAK, 3-Leads, Body 10.06x8.98mm, Pitch 2.54mm, IPC Low Density)
pins: 1 GATE, 2 DRAIN, 3 SOURCE

## IPB016N06L3 G
designator Q?
N-Channel OptiMOS 3 Power-Transistor, 60 V VDS, 180 A ID, -55 to 175 degC, PG-TO-263-7-2, Reel, Green; Manufacturer: Infineon; PartNumber: IPB016N06L3 G; Green: TRUE; ID (max): 180 A; IDpuls (max): 720 A; Polarity: N; Ptot (max): 250 W; QG: 125 nC; RDS (on) (max): 1.6 mOhm; RDS (on) (max) (@4.5V): 2.7 mOhm; Rth: 0.6 K/W; RthJA (max): 62 K/W; VDS (max): 60 V; VGS(th) (max): 2.2 V; VGS(th) (min): 1.2 V; DatasheetVersion: Rev. 2.3; PackageVersion: Rev. 01, 11/2007; PackageReference: PG-TO-263-7-2; PackageDescription: 7-Pin Plastic (Green) Transistor Single Outline Package, 10.1 x 8.98 mm Body, 1.27 mm Pitch; Supplier 1: Mouser; Supplier Part Number 1: 726-IPB016N06L3G; Supplier 2: Digi-Key; Supplier Part Number 2: IPB016N06L3 GTR-ND; Supplier 3: Digi-Key; Supplier Part Number 3: IPB016N06L3 GCT-ND; Supplier 4: Digi-Key; Supplier Part Number 4: IPB016N06L3 GDKR-ND; Halogen-free: TRUE; Packing: Reel; RthJC (max): 0.6 K/W; Mounting Technology: Surface Mount; ComponentLink1Description: Manufacturer URL; ComponentLink1URL: http://www.infineon.com/; ComponentLink2Description: Datasheet; ComponentLink2URL: http://www.infineon.com/dgdl/IPB016N06L3_Rev2.3.pdf?folderId=db3a30431441fb5d01148ca9f1be0e77&fileId=db3a30431ddc9372011e261543e54693; ComponentLink3Description: Package Specification; ComponentLink3URL: http://www.infineon.com/dgdl/BTS621L1_20030922.pdf?folderId=db3a30431400ef68011421b54e2e0564&fileId=db3a304333227b5e0133258247c72ecc&sId=db3a30433d68e984013d8539603e0d72
footprint INF-PG-TO-263-7-2_N (DPAK, 7-Leads, Body 10.1x8.98mm, Pitch 1.27mm, IPC Medium Density)
footprint INF-PG-TO-263-7-2_L (DPAK, 7-Leads, Body 10.1x8.98mm, Pitch 1.27mm, IPC High Density)
footprint INF-PG-TO-263-7-2_M (DPAK, 7-Leads, Body 10.1x8.98mm, Pitch 1.27mm, IPC Low Density)
pins: 1 GATE, 2 SOURCE, 3 SOURCE, 4 DRAIN, 5 SOURCE, 6 SOURCE, 7 SOURCE
text: 2, 3, 5, 6, 7

## IPB017N06N3 G
designator Q?
N-Channel OptiMOS 3 Power-Transistor, 60 V VDS, 180 A ID, -55 to 175 degC, PG-TO-263-7-2, Reel, Green; Manufacturer: Infineon; PartNumber: IPB017N06N3 G; Green: TRUE; ID (max): 180 A; IDpuls (max): 720 A; Polarity: N; Ptot (max): 250 W; QG: 206 nC; RDS (on) (max): 1.7 mOhm; Rth: 0.6 K/W; RthJA (max): 62 K/W; VDS (max): 60 V; VGS(th) (max): 4 V; VGS(th) (min): 2 V; DatasheetVersion: Rev. 2.2; PackageVersion: Rev. 01, 11/2007; PackageReference: PG-TO-263-7-2; PackageDescription: 7-Pin Plastic (Green) Transistor Single Outline Package, 10.1 x 8.98 mm Body, 1.27 mm Pitch; Supplier 1: Mouser; Supplier Part Number 1: 726-IPB017N06N3G; Supplier 2: Newark; Supplier Part Number 2: 60R2643; Supplier 3: Farnell; Supplier Part Number 3: 1775519; Supplier 4: Digi-Key; Supplier Part Number 4: IPB017N06N3 GTR-ND; Supplier 5: Digi-Key; Supplier Part Number 5: IPB017N06N3 GCT-ND; Supplier 6: Digi-Key; Supplier Part Number 6: IPB017N06N3 GDKR-ND; Halogen-free: TRUE; Packing: Reel; RthJC (max): 0.6 K/W; Mounting Technology: Surface Mount; ComponentLink1Description: Manufacturer URL; ComponentLink1URL: http://www.infineon.com/; ComponentLink2Description: Datasheet; ComponentLink2URL: http://www.infineon.com/dgdl/IPB017N06N3_Rev2.2.pdf?folderId=db3a30431441fb5d01148ca9f1be0e77&fileId=db3a30431ddc9372011e264a7ab746ea; ComponentLink3Description: Package Specification; ComponentLink3URL: http://www.infineon.com/dgdl/BTS621L1_20030922.pdf?folderId=db3a30431400ef68011421b54e2e0564&fileId=db3a304333227b5e0133258247c72ecc&sId=db3a30433d68e984013d8539603e0d72
footprint INF-PG-TO-263-7-2_N (DPAK, 7-Leads, Body 10.1x8.98mm, Pitch 1.27mm, IPC Medium Density)
footprint INF-PG-TO-263-7-2_L (DPAK, 7-Leads, Body 10.1x8.98mm, Pitch 1.27mm, IPC High Density)
footprint INF-PG-TO-263-7-2_M (DPAK, 7-Leads, Body 10.1x8.98mm, Pitch 1.27mm, IPC Low Density)
pins: 1 GATE, 2 SOURCE, 3 SOURCE, 4 DRAIN, 5 SOURCE, 6 SOURCE, 7 SOURCE
text: 2, 3, 5, 6, 7

## IPB017N08N5
designator Q?
N-Channel OptiMOS(TM) 5 Power-Transistor, 80 V VDS, 120 A ID, PG-TO263-3, Reel, Green; Manufacturer: Infineon; PartNumber: IPB017N08N5; Green: TRUE; ID (max): 120 A; IDpuls (max): 480 A; Polarity: N; Ptot (max): 375 W; QG: 178 nC; RDS (on) (max): 1.7 mOhm; RthJA (max): 62 K/W; RthJC (max): 0.4 K/W; VDS (max): 80 V; VGS(th) (max): 3.8 V; VGS(th) (min): 2.2 V; DatasheetVersion: Rev. 2.1; PackageVersion: Jul-09; PackageReference: PG-TO263-3-2; PackageDescription: 3-Pin Plastic (Green) Transistor Single Outline Package, 10 x 9.25 mm Body, 2.54 mm Pitch; Halogen-free: TRUE; Mounting: SMD; Packing: Reel; Technology: OptiMOS(TM); Mounting Technology: Surface Mount; ComponentLink1Description: Manufacturer URL; ComponentLink1URL: http://www.infineon.com/; ComponentLink2Description: Datasheet; ComponentLink2URL: http://www.infineon.com/dgdl/IPB017N08N5_2_1.pdf?folderId=db3a304313b8b5a60113cee7c66a02d6&fileId=5546d461454603990145ccd9e5e0620c; ComponentLink3Description: Package Specification; ComponentLink3URL: http://www.infineon.com/dgdl/Buz30a+H3045A+Rev+2.2.pdf?folderId=db3a304325305e6d012596c6ca7b290a&fileId=db3a304325305e6d012596cd45e4290f
footprint INF-PG-TO263-3-2_N (DPAK, 3-Leads, Body 10x9.25mm, Pitch 2.54mm, IPC Medium Density)
footprint INF-PG-TO263-3-2_L (DPAK, 3-Leads, Body 10x9.25mm, Pitch 2.54mm, IPC High Density)
footprint INF-PG-TO263-3-2_M (DPAK, 3-Leads, Body 10x9.25mm, Pitch 2.54mm, IPC Low Density)
pins: 1 GATE, 2 DRAIN, 3 SOURCE

## IPB17N25S3-100
designator Q?
OptiMOS-T Power-Transistor, 250 V VDS, 17 A ID, PG-TO263-3-2, Green; Manufacturer: Infineon; PartNumber: IPB17N25S3-100; Green: TRUE; ID (max): 17 A; IDpuls (max): 68; Ptot (max): 107 W; QG: 14 nC; RDS (on) (max) (@10V): 100 mOhm; RthJC (max): 1.4 K/W; VDS (max): 250 V; VGS(th) (max): 4 V; VGS(th) (min): 2 V; DatasheetVersion: Rev. 1.0; PackageVersion: Jul-09; PackageReference: PG-TO263-3-2; PackageDescription: 3-Pin Plastic (Green) Transistor Single Outline Package, 10 x 9.25 mm Body, 2.54 mm Pitch; Supplier 1: Mouser; Supplier Part Number 1: 726-IPB17N25S3-100; Halogen-free: FALSE; Technology: OptiMOS-T; Mounting Technology: Surface Mount; ComponentLink1Description: Manufacturer URL; ComponentLink1URL: http://www.infineon.com/; ComponentLink2Description: Datasheet; ComponentLink2URL: http://www.infineon.com/dgdl/IPP_B17N25S3-100_DS_10.pdf?folderId=db3a30433b92f0e8013b9377b6270147&fileId=db3a30433b92f0e8013b937c398a014b&location=en.Products.Automotive_ICs.Automotive_MOSFETs.Single__N-Channel_250V_MOSFETs.DATASHEET.IPP_B17N25S3-100_DS_10.pdf; ComponentLink3Description: Package Specification; ComponentLink3URL: http://www.infineon.com/dgdl/BTS141TC_DS_10.pdf?folderId=db3a3043163797a6011667aa084c0e01&fileId=db3a3043242ebc9e01242f43f58b003e&location=en.Products.Automotive_ICs.Smart_High-_and_Low-Side_Switches.HITFET___TEMPFET__-_Smart_Low-Side_Switches.DATASHEET.BTS141TC_DS_10.pdf
footprint INF-PG-TO263-3-2_N (DPAK, 3-Leads, Body 10x9.25mm, Pitch 2.54mm, IPC Medium Density)
footprint INF-PG-TO263-3-2_L (DPAK, 3-Leads, Body 10x9.25mm, Pitch 2.54mm, IPC High Density)
footprint INF-PG-TO263-3-2_M (DPAK, 3-Leads, Body 10x9.25mm, Pitch 2.54mm, IPC Low Density)
pins: 1 GATE, 2 DRAIN, 3 SOURCE